# Altium footprint library PcbLib1.PcbLib: 4 footprints
Each footprint in its own frame and in the unit in brackets; x right, y up, seen from the top. Pads: shape width x height; smd on the part's side, far side on the other; paste and mask are expansions set on the pad; w line width, h text height; cw(c..) or ccw(c..) is an arc to the next point about the centre after c.
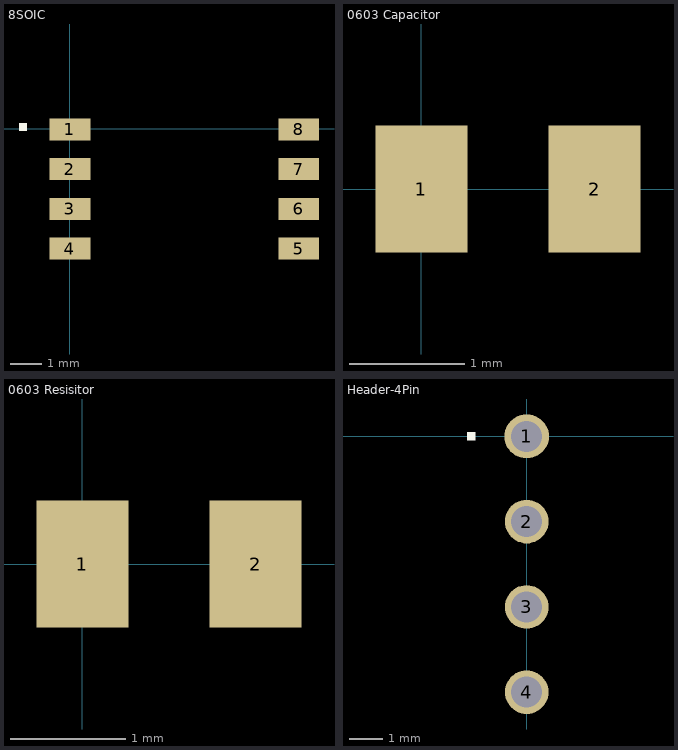
[diagram p0: the footprints below, top view; thin cyan lines are the x and y axes]

## 8SOIC [mm]
pads (8):
  rect 1.3x0.7 smd paste-2539.97 mask+0.152: 1(0,-0.025) 2(0,-1.295) 3(0,-2.565) 4(0,-3.835) 5(7.3,-3.835) 6(7.3,-2.565) 7(7.3,-1.295) 8(7.3,-0.025)
Top Overlay:
  rectangle: -1.626,-0.076 -1.372,0.178
3D body "SOIC-8_ALM.step": height 1.75, standoff 0, extent -0.543,-4.432 7.859,0.572

## 0603 Capacitor [mm]
pads (2):
  rect 0.8x1.1 smd paste-2539.97 mask+0.152: 1(0,0) 2(1.5,0)
3D body "CC0603N_YAG.step": height 0.71, standoff 0, extent -0.038,-0.406 1.562,0.406

## 0603 Resisitor [mm]
pads (2):
  rect 0.8x1.1 smd paste-2539.97 mask+0.152: 1(0,0) 2(1.5,0)
3D body "RES_RC0603_YAG.step": height 0.56, standoff 0, extent -0.101,-0.444 1.6,0.444

## Header-4Pin [mm]
pads (4):
  oval 1.33x1.3 hole 0.925 paste-2539.97 mask+0.152: 1(0,0)
  round 1.3 hole 0.925 paste-2539.97 mask+0.152: 2(0,-2.54) 3(0,-5.08) 4(0,-7.62)
Top Overlay:
  rectangle: -1.778,-0.127 -1.524,0.127
3D body "CON4_1X4_P100UM_HDR2_TYC.step": height 9.6, standoff -4.98, extent -1.27,-8.89 1.27,1.27